# EAGLE library part IM880_MODULE (library chips)
Lora Radio module by IMST
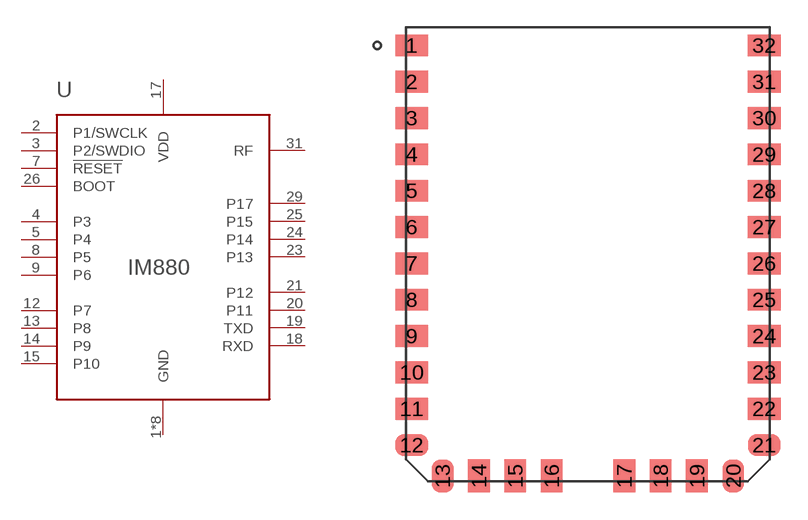
[diagram p55: symbol with the pads of IM880_MODULE; footprint IM880_MODULE]

Designator prefix U

## IM880_MODULE  [IM880_MODULE]
1  GND
2  P1/SWCLK
3  P2/SWDIO
4  P3
5  P4
6  GND
7  !RESET
8  P5
9  P6
11  GND
12  P7
13  P8
14  P9
15  P10
16  GND
17  VDD
18  RXD
19  TXD
20  P11
21  P12
22  GND
23  P13
24  P14
25  P15
26  BOOT
27  GND
29  P17
30  GND
31  RF
32  GND

## Footprint IM880_MODULE (pad centres in mm)
smd 1.8 x 1.2: 1 -9.7,11; 2 -9.7,9; 3 -9.7,7; 4 -9.7,5; 5 -9.7,3; 6 -9.7,1; 7 -9.7,-1; 8 -9.7,-3; 9 -9.7,-5; 10 -9.7,-7; 11 -9.7,-9; 12 -9.7,-11; 21 9.7,-11; 22 9.7,-9; 23 9.7,-7; 24 9.7,-5; 25 9.7,-3; 26 9.7,-1; 27 9.7,1; 28 9.7,3; 29 9.7,5; 30 9.7,7; 31 9.7,9; 32 9.7,11
smd 1.2 x 1.8: 13 -8,-12.7; 14 -6,-12.7; 15 -4,-12.7; 16 -2,-12.7; 17 2,-12.7; 18 4,-12.7; 19 6,-12.7; 20 8,-12.7